# Altium integrated library ERJU03J133V.IntLib: 1 symbol
Pins are listed as number, name and electrical type; pins without a type are passive.

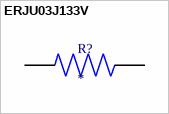
[diagram p0: symbol ERJU03J133V]

## ERJU03J133V
designator R?
RES 13K OHM 5% 1/10W 0603 SMD; MF: Panasonic; MP: ERJ-U03J133V; SnapEDA_Link: https://www.snapeda.com/parts/ERJ-U03J133V/Panasonic/view-part/?ref=snap; Package: 1608-2 Panasonic; Value: *; Check_prices: https://www.snapeda.com/parts/ERJ-U03J133V/Panasonic/view-part/?ref=eda
footprint RES_ERJU03J133V
pins: 1, 2